# Altium schematic symbol library SCA3100.Schlib: 1 symbol
Pins are listed as number, name and electrical type; pins without a type are passive.

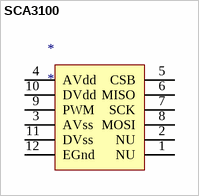
[diagram p0: symbol SCA3100]

## SCA3100
designator *
pins: 1 NU, 2 NU, 3 AVss, 4 AVdd, 5 CSB, 6 MISO, 7 SCK, 8 MOSI, 9 PWM, 10 DVdd, 11 DVss, 12 EGnd